# Altium schematic symbol library SCH - POWER - LINEAR VREG - AD ADP7182 TSOT5 ADJ.SchLib: 1 symbol
Pins are listed as number, name and electrical type; pins without a type are passive.

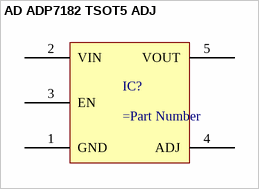
[diagram p0: symbol AD ADP7182 TSOT5 ADJ]

## AD ADP7182 TSOT5 ADJ
designator IC?
pins: 1 GND, 2 VIN, 3 EN, 4 ADJ, 5 VOUT